# Altium footprint library Connector.PcbLib: 9 footprints
Each footprint in its own frame and in the unit in brackets; x right, y up, seen from the top. Pads: shape width x height; smd on the part's side, far side on the other; paste and mask are expansions set on the pad; w line width, h text height; cw(c..) or ccw(c..) is an arc to the next point about the centre after c.
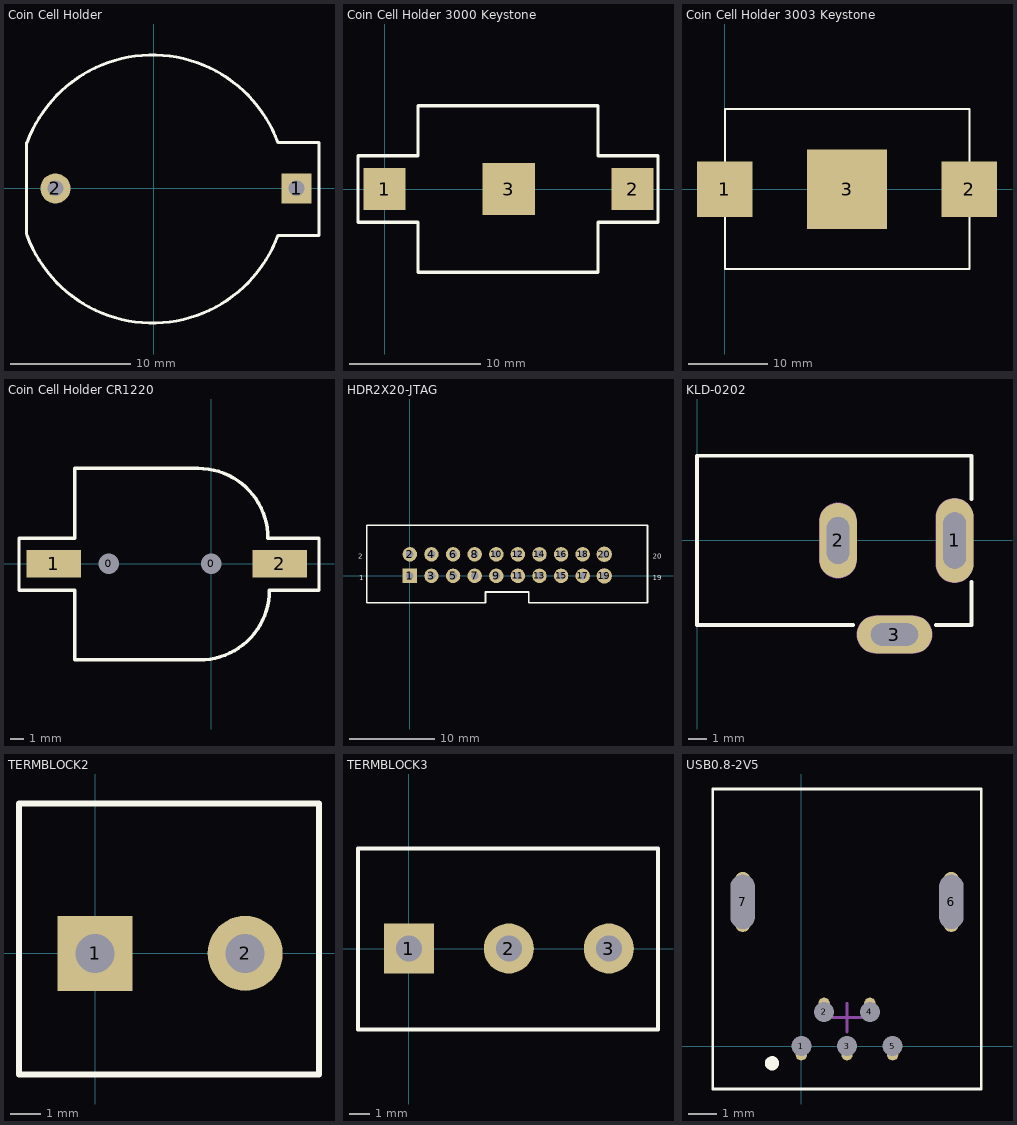
[diagram p0: the footprints below, top view; thin cyan lines are the x and y axes]

## Coin Cell Holder [mm] "Coin Cell Holder 20mm"
pads (2):
  rect 2.5x2.5 hole 1.3: 1(11.85,0)
  round 2.5 hole 1.3: 2(-8.15,0)
Top Overlay:
  lines w0.254: -10.54,-3.8 -10.54,0 -10.54,3.8 ; -10.5,-3.9 ccw(c-0.1,-0.1) 10.3,-3.9 13.716,-3.9 13.716,3.81 10.414,3.81 ; -10.5,3.8 cw(c-0.1,0) 10.3,3.8
3D body "Battery Holder.STEP": height 7.05, standoff -3.5, extent -12.975,-11.375 15.725,11.375

## Coin Cell Holder 3000 Keystone [mm] "Coin Cell Holder 12mm"
pads (3):
  rect 3.2x3.2 smd: 1(0,0) 2(18.9,0)
  rect 4x4 smd: 3(9.45,0)
Top Overlay:
  lines w0.254: -2.032,-2.54 2.54,-2.54 2.54,-6.35 16.256,-6.35 16.256,-2.54 20.828,-2.54 20.828,2.54 16.256,2.54 16.256,6.35 2.54,6.35 2.54,2.54 -2.032,2.54 -2.032,-2.498
3D body "Keystone3000.STEP": height 2.55, standoff 0.17, extent 0.18,-6.216 18.62,5.816

## Coin Cell Holder 3003 Keystone [mm] "Coin Cell Holder 20mm"
pads (3):
  rect 7x7 smd: 1(0,0) 2(30.7,0)
  rect 10x10 smd: 3(15.35,0)
Top Overlay:
  lines w0.254: 0,-10.027 0,10.1 30.734,10.1 30.734,-10.027 0,-10.027
3D body "Keystone3002.STEP": height 3.96, standoff 0, extent 0,-10.027 30.734,10.027

## Coin Cell Holder CR1220 [mm] "Coin Cell Holder 20mm"
pads (4):
  round 1 hole 1.5: 0(-7.5,0) 0(0,0)
  rect 4x2 smd: 1(-11.5,0) 2(5,0)
Top Overlay:
  lines w0.254: -0.95,6.981 cw(c-0.95,1.89) 4.141,1.89 7.874,1.89 7.874,-1.92 4.248,-1.92 cw(c-0.843,-1.92) -0.843,-7.011 ; -0.95,7 -9.984,7 -9.984,1.89 -14.048,1.89 -14.048,-1.92 -9.984,-1.92 -9.984,-7 -0.854,-7

## HDR2X20-JTAG [mm] "Connector; Header; 20x2 Position"
pads (20):
  rect 1.7x1.7 hole 0.9: 1(0,0)
  round 1.7 hole 0.9: 2(0,2.54) 3(2.54,0) 4(2.54,2.54) 5(5.08,0) 6(5.08,2.54) 7(7.62,0) 8(7.62,2.54) 9(10.16,0) 10(10.16,2.54) 11(12.7,0) 12(12.7,2.54) 13(15.24,0) 14(15.24,2.54) 15(17.78,0) 16(17.78,2.54) 17(20.32,0) 18(20.32,2.54)
  round 1.8 hole 0.9: 19(22.86,0) 20(22.86,2.54)
Top Overlay:
  lines w0.2: -5.08,-3.175 8.89,-3.175 8.89,-1.905 13.97,-1.905 13.97,-3.175 27.94,-3.175 27.94,5.969 1.905,5.969 -5.08,5.969 -5.08,-3.175
  text "20" at 28.575,2.032 h0.6
  text "19" at 28.575,-0.508 h0.6
  text "1" at -5.969,-0.508 h0.6
  text "2" at -6.096,2.032 h0.6
3D body "BH-20.STEP": height 8.75, standoff -3.1, extent -5.08,-3.105 27.94,5.995

## KLD-0202 [mm] "DC Power Jack, 2.5mm, KLD Series, PCB Mount"
pads (3):
  oval 2x4.5 hole 1.2 slot 3 at 90 deg: 1(13.7,0)
  oval 2x4 hole 1.2 slot 2.5 at 90 deg: 2(7.5,0)
  oval 4x2 hole 1.2 slot 2.5 at 0 deg: 3(10.5,-5)
Top Overlay:
  lines w0.2: 8.3,-4.5 0,-4.5 0,4.5 14.6,4.5 14.6,2.2 ; 12.7,-4.5 14.6,-4.5 14.6,-2.2
Mechanical 1:
  lines w1: 7.5,-1 7.5,1 ; 9.5,-5 11.5,-5 ; 13.7,-1.25 13.7,1.25
  text "Mech 2 - Clearance, move to internal plane if present" at 0.286,5.066 h0.3
  text "Mech 1 - Slot cut-out" at 0.286,5.566 h0.3
  text "Assign keep-out area to slot" at 0.286,6.566 h0.3
  text "Alert PCB fab to slot details" at 0.286,6.066 h0.3
Mechanical 2:
  lines w2.016: 7.5,-1 7.5,1 ; 9.5,-5 11.5,-5 ; 13.7,-1.25 13.7,1.25

## TERMBLOCK2 [mm] "Connector; Header; 2 Position"
height 2.2
pads (2):
  rect 2.5x2.5 hole 1.3: 1(0,0)
  round 2.5 hole 1.3: 2(5,0)
Top Overlay:
  lines w0.2: -2.54,-4.047 7.46,-4.047 ; -2.54,-4 -2.54,5 7.46,5 ; 7.46,-4 7.46,4.953

## TERMBLOCK3 [mm] "Connector; Header; 2 Position"
height 2.2
pads (3):
  rect 2.5x2.5 hole 1.3: 1(0,0)
  round 2.5 hole 1.3: 2(5,0) 3(10,0)
Top Overlay:
  lines w0.2: -2.54,-4.047 12.46,-4.047 ; -2.54,-4 -2.54,5 12.46,5 ; 12.46,-4 12.46,4.953
3D body "Klemmnic 3x.STEP": height 2.5, standoff -10.5, extent -3.1,-3 12.5,4.6

## USB0.8-2V5 [mm] "Connector; USB Mini-B, Type 2, Thru-Hole; 5 Position; Vertical"
height 7.7
pads (7):
  round 0.4 / inner round 0.4 / far side oval 1.1x1.7 hole 0.7 copper offset 0,-0.3: 1(0,0) 3(1.6,0) 5(3.2,0)
  round 0.4 / inner round 0.4 / far side oval 1.1x1.7 hole 0.7 copper offset 0,0.3: 2(0.8,1.2) 4(2.4,1.2)
  oval 0.55x2.1 / inner oval 0.55x2.1 / far side oval 1.6x3.9 hole 0.85 slot 1.9 at 90 deg: 6(5.25,5.05) 7(-2.05,5.05)
Top Overlay:
  circle w0.25: c-1.025,-0.6 r0.125
  lines w0.1: -3.1,-1.5 6.3,-1.5 6.3,9 -3.1,9 -3.1,-1.5
Mechanical 15:
  lines w0.1: 1.1,1 2.1,1 ; 1.6,0.5 1.6,1.5
3D body "USB-Mini-B.STEP": height 3.95, standoff -1.8, extent -2.25,-0.2 5.45,8.8